# Altium footprint library IHLP4040DZER101M1A.PcbLib: 1 footprints
Each footprint in its own frame and in the unit in brackets; x right, y up, seen from the top. Pads: shape width x height; smd on the part's side, far side on the other; paste and mask are expansions set on the pad; w line width, h text height; cw(c..) or ccw(c..) is an arc to the next point about the centre after c.
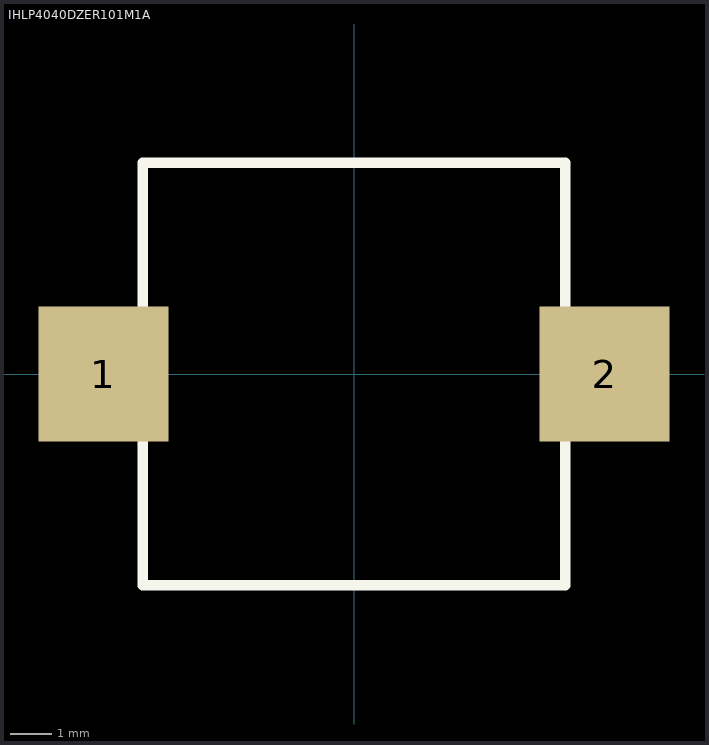
[diagram p0: the footprint, top view; thin cyan lines are the x and y axes]

## IHLP4040DZER101M1A [mil]
pads (2):
  rect 123x128 smd: 1(-237.5,0) 2(237.5,0)
Top Overlay:
  lines w10: -200,-200 200,-200 200,200 -200,200 -200,-200